# EAGLE library part MAX3485CSA+T (library MAX3485CSA+T)
RS-422/RS-485 Interface IC Source: Datasheet <https://datasheet.datasheetarchive.com/originals/distributors/Datasheets-17/DSA-339988.pdf>
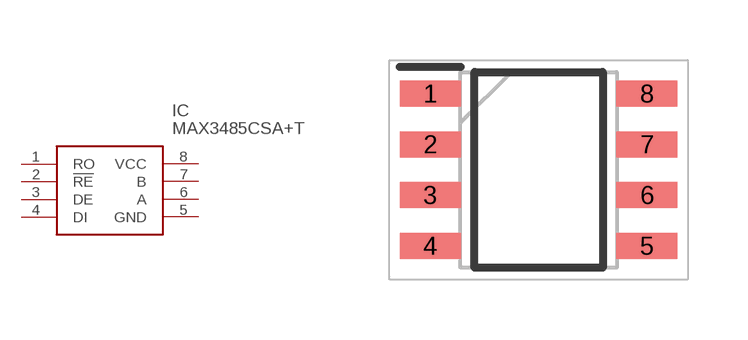
[diagram p0: symbol with the pads of SOIC127P600X175-8N; footprint SOIC127P600X175-8N]

Designator prefix IC

## MAX3485CSA+T (Description: RS-422/RS-485 Interface IC; Height: 1.75mm; Manufacturer_Name: Maxim Integrated; Manufacturer_Part_Number: MAX3485CSA+T)  [SOIC127P600X175-8N]
1  RO
2  !RE
3  DE
4  DI
5  GND
6  A
7  B
8  VCC

## Footprint SOIC127P600X175-8N (pad centres in mm)
8 SO-3
smd 1.525 x 0.65: 1 -2.712,1.905; 2 -2.712,0.635; 3 -2.712,-0.635; 4 -2.712,-1.905; 5 2.712,-1.905; 6 2.712,-0.635; 7 2.712,0.635; 8 2.712,1.905